# EAGLE library part MC100EP56DTG (library on-semiconductor-01)
2:1 Multiplexer
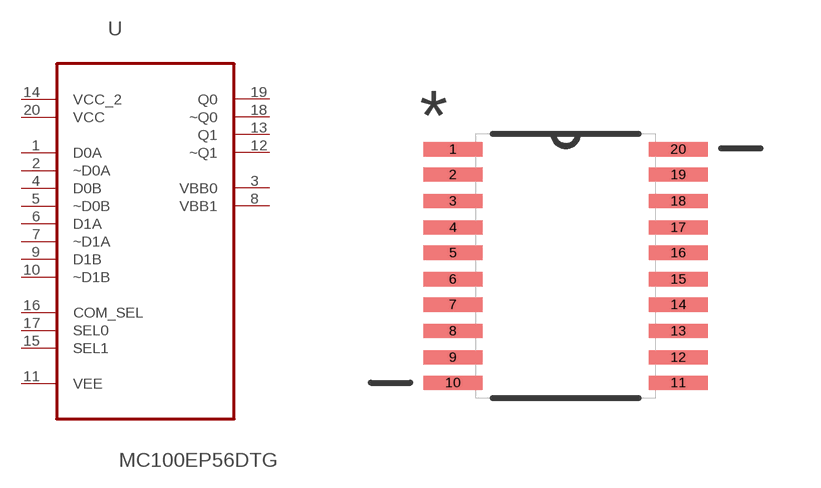
[diagram p124: symbol with the pads of SOP65P640X120-20N; footprint SOP65P640X120-20N]

Designator prefix U

## MC100EP56DTG (MPN: MC100EP56DTG; OC_FARNELL: 1607687; OC_NEWARK: 42K0438; PACKAGE: TSSOP-20; SUPPLIER: On Semiconductor)  [SOP65P640X120-20N]
1  D0A  in
2  ~D0A  in
3  VBB0  out
4  D0B  in
5  ~D0B  in
6  D1A  in
7  ~D1A  in
8  VBB1  out
9  D1B  in
10  ~D1B  in
11  VEE  pwr
12  ~Q1  out
13  Q1  out
14  VCC_2  pwr
15  SEL1  in
16  COM_SEL  in
17  SEL0  in
18  ~Q0  out
19  Q0  out
20  VCC  pwr

## Footprint SOP65P640X120-20N (pad centres in mm)
smd 1.473 x 0.356: 1 -2.819,2.921; 2 -2.819,2.286; 3 -2.819,1.626; 4 -2.819,0.965; 5 -2.819,0.33; 6 -2.819,-0.33; 7 -2.819,-0.965; 8 -2.819,-1.626; 9 -2.819,-2.286; 10 -2.819,-2.921; 11 2.819,-2.921; 12 2.819,-2.286; 13 2.819,-1.626; 14 2.819,-0.965; 15 2.819,-0.33; 16 2.819,0.33; 17 2.819,0.965; 18 2.819,1.626; 19 2.819,2.286; 20 2.819,2.921